# Altium schematic symbol library Sparkgap.Schlib: 1 symbol
Pins are listed as number, name and electrical type; pins without a type are passive.

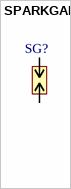
[diagram p0: symbol SPARKGAP]

## SPARKGAP
designator SG?
pins: 1, 2